# Altium integrated library Abracon_Oscillators.IntLib: 1 symbol
Pins are listed as number, name and electrical type; pins without a type are passive.

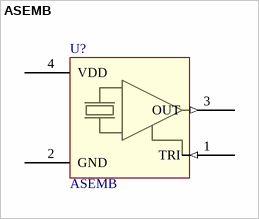
[diagram p0: symbol ASEMB]

## ASEMB
designator U?
Standard Clock Oscillators 4MHz 10ppm -40C +105C; Manufacturer 1: Abracon LLC; Manufacturer Part Number: ASEMB-4.000MHZ-XY-T; Manufacturer: ABRACON; Load Capacitance: 15 pF; Operating Supply Voltage: 1.7 V to 3.6 V; Frequency Delta: +/- 40Hz; Publisher: Valentino Zegna Baruffa; Published: 7-Apr-2015; Supplier 1: Mouser; Supplier Part Number 1: 815-ASEMB-4-XY-T; Supplier 2: Digi-Key; Supplier Part Number 2: 535-11133-6-ND; Maximum Operating Temperature: + 105 C; Width: 2.5 mm; Frequency: 4 MHz; Minimum Operating Temperature: - 40 C; Length: 3.5 mm; Frequency Stability: 10 PPM; Termination Style: SMD/SMT; Package / Case: 3.5 mm x 2.5 mm x 0.85 mm; Height: 0.85 mm; Series: ASEMB; Product: MEMS Oscillators; Datasheet: http://www.mouser.com/ds/2/3/ASEMB-7474.pdf
footprint ASEMB
pins: 1 TRI (in), 2 GND (power), 3 OUT (out), 4 VDD (power)